# Altium integrated library National Semiconductor MiscPower.IntLib: 1552 symbols (part 11 of 43)
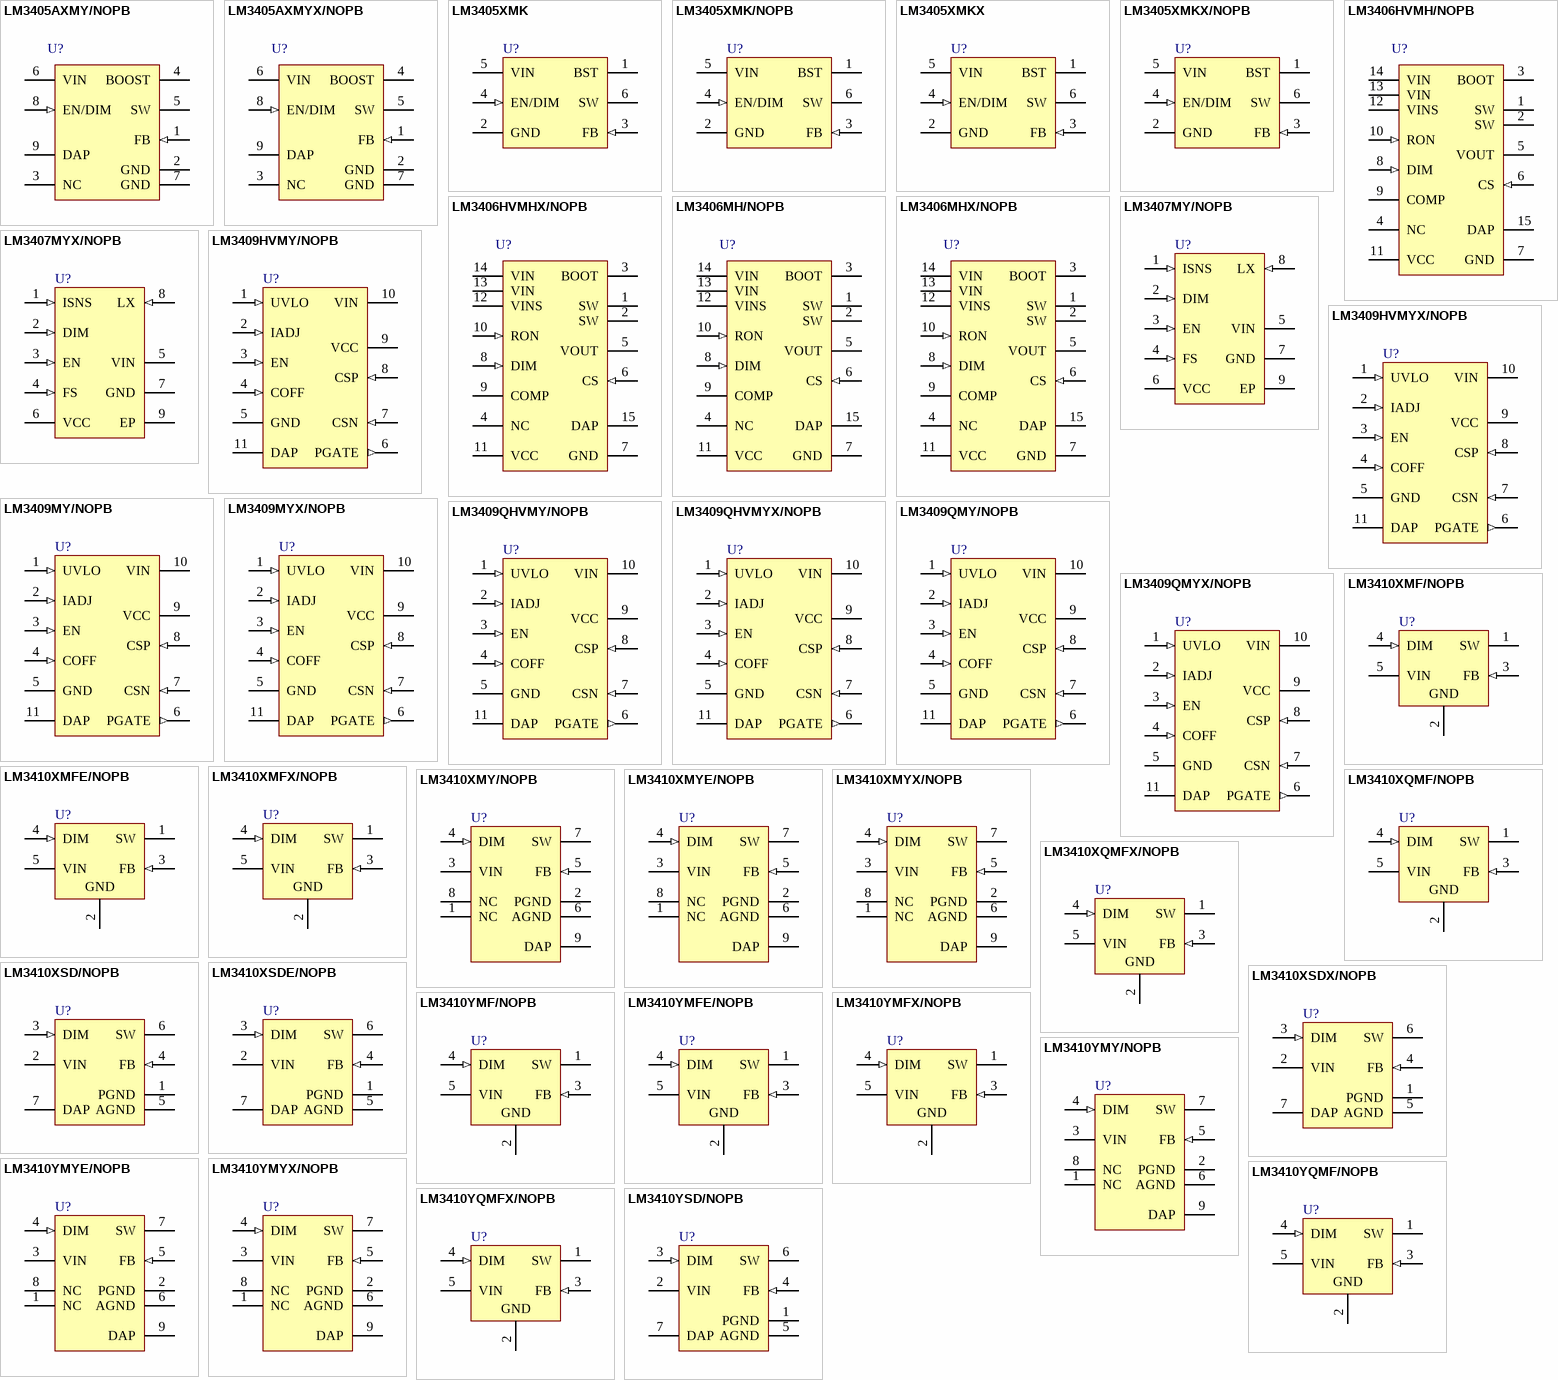
[diagram p67: symbols LM3405AXMY/NOPB to LM3410YSD/NOPB]

## LM3409QHVMY/NOPB
designator U?
PFET Buck Controller for High Power LED Drives, 10-pin eMSOP, Pb-Free; PartNumber: LM3409QHVMY/NOPB; Manufacturer: National Semiconductor; PackageTopMarking: ZXTT*SZEB; PowerWise: N; CompType: MiscPower; High-Reliability: Y; DatasheetVersion: Apr-2010; PackageVersion: revA, May-2006; PackageReference: MUC10A; PackageDescription: Molded Mini-SO, Exposed Pad .118 x .118 x .034in Body, 10 Lead, .0197in Pitch; RoHS: Y; PinCount: 10; Code_JEDEC: MO-187-BAT; ComponentLink1Description: Manufacturer URL; ComponentLink1URL: http://www.national.com/; ComponentLink2Description: LM3409 Datasheet; ComponentLink2URL: http://www.national.com/ds/LM/LM3409.pdf; ComponentLink3Description: LM3409 Web Page; ComponentLink3URL: http://www.national.com/pf/LM/LM3409.html; ComponentLink4Description: MUC10A Package Page; ComponentLink4URL: http://www.national.com/packaging/folders/muc10a.html
footprint MUC10A_N (TSSOP, 10-Leads, Body 3x3mm, Pitch 0.5mm, Exposed Pad, IPC Medium Density)
footprint MUC10A_L (TSSOP, 10-Leads, Body 3x3mm, Pitch 0.5mm, Exposed Pad, IPC High Density)
footprint MUC10A_M (TSSOP, 10-Leads, Body 3x3mm, Pitch 0.5mm, Exposed Pad, IPC Low Density)
pins: 1 UVLO (in) "Input under-voltage lockout", 2 IADJ (in) "Analog LED current adjust", 3 EN (in) "Logic level enable / PWM dimming", 4 COFF (in) "Off-time programming", 5 GND (power) "Ground", 6 PGATE (out) "Gate drive", 7 CSN (in) "Negative current sense", 8 CSP (in) "Positive current sense", 9 VCC (power) "VIN- referenced linear regulator output", 10 VIN (power) "Input voltage", 11 DAP (power) "Thermal pad on bottom of IC"

## LM3409QHVMYX/NOPB
designator U?
PFET Buck Controller for High Power LED Drives, 10-pin eMSOP, Pb-Free; PartNumber: LM3409QHVMYX/NOPB; Manufacturer: National Semiconductor; PackageTopMarking: ZXTT*SZEB; PowerWise: N; CompType: MiscPower; High-Reliability: Y; DatasheetVersion: Apr-2010; PackageVersion: revA, May-2006; PackageReference: MUC10A; PackageDescription: Molded Mini-SO, Exposed Pad .118 x .118 x .034in Body, 10 Lead, .0197in Pitch; RoHS: Y; PinCount: 10; Code_JEDEC: MO-187-BAT; ComponentLink1Description: Manufacturer URL; ComponentLink1URL: http://www.national.com/; ComponentLink2Description: LM3409 Datasheet; ComponentLink2URL: http://www.national.com/ds/LM/LM3409.pdf; ComponentLink3Description: LM3409 Web Page; ComponentLink3URL: http://www.national.com/pf/LM/LM3409.html; ComponentLink4Description: MUC10A Package Page; ComponentLink4URL: http://www.national.com/packaging/folders/muc10a.html
footprint MUC10A_N (TSSOP, 10-Leads, Body 3x3mm, Pitch 0.5mm, Exposed Pad, IPC Medium Density)
footprint MUC10A_L (TSSOP, 10-Leads, Body 3x3mm, Pitch 0.5mm, Exposed Pad, IPC High Density)
footprint MUC10A_M (TSSOP, 10-Leads, Body 3x3mm, Pitch 0.5mm, Exposed Pad, IPC Low Density)
pins: 1 UVLO (in) "Input under-voltage lockout", 2 IADJ (in) "Analog LED current adjust", 3 EN (in) "Logic level enable / PWM dimming", 4 COFF (in) "Off-time programming", 5 GND (power) "Ground", 6 PGATE (out) "Gate drive", 7 CSN (in) "Negative current sense", 8 CSP (in) "Positive current sense", 9 VCC (power) "VIN- referenced linear regulator output", 10 VIN (power) "Input voltage", 11 DAP (power) "Thermal pad on bottom of IC"

## LM3409QMY/NOPB
designator U?
PFET Buck Controller for High Power LED Drives, 10-pin eMSOP, Pb-Free; PartNumber: LM3409QMY/NOPB; Manufacturer: National Semiconductor; PackageTopMarking: ZXTT*SZDB; PowerWise: N; CompType: MiscPower; High-Reliability: Y; DatasheetVersion: Apr-2010; PackageVersion: revA, May-2006; PackageReference: MUC10A; PackageDescription: Molded Mini-SO, Exposed Pad .118 x .118 x .034in Body, 10 Lead, .0197in Pitch; RoHS: Y; PinCount: 10; Code_JEDEC: MO-187-BAT; ComponentLink1Description: Manufacturer URL; ComponentLink1URL: http://www.national.com/; ComponentLink2Description: LM3409 Datasheet; ComponentLink2URL: http://www.national.com/ds/LM/LM3409.pdf; ComponentLink3Description: LM3409 Web Page; ComponentLink3URL: http://www.national.com/pf/LM/LM3409.html; ComponentLink4Description: MUC10A Package Page; ComponentLink4URL: http://www.national.com/packaging/folders/muc10a.html
footprint MUC10A_N (TSSOP, 10-Leads, Body 3x3mm, Pitch 0.5mm, Exposed Pad, IPC Medium Density)
footprint MUC10A_L (TSSOP, 10-Leads, Body 3x3mm, Pitch 0.5mm, Exposed Pad, IPC High Density)
footprint MUC10A_M (TSSOP, 10-Leads, Body 3x3mm, Pitch 0.5mm, Exposed Pad, IPC Low Density)
pins: 1 UVLO (in) "Input under-voltage lockout", 2 IADJ (in) "Analog LED current adjust", 3 EN (in) "Logic level enable / PWM dimming", 4 COFF (in) "Off-time programming", 5 GND (power) "Ground", 6 PGATE (out) "Gate drive", 7 CSN (in) "Negative current sense", 8 CSP (in) "Positive current sense", 9 VCC (power) "VIN- referenced linear regulator output", 10 VIN (power) "Input voltage", 11 DAP (power) "Thermal pad on bottom of IC"

## LM3409QMYX/NOPB
designator U?
PFET Buck Controller for High Power LED Drives, 10-pin eMSOP, Pb-Free; PartNumber: LM3409QMYX/NOPB; Manufacturer: National Semiconductor; PackageTopMarking: ZXTT*SZDB; PowerWise: N; CompType: MiscPower; High-Reliability: Y; DatasheetVersion: Apr-2010; PackageVersion: revA, May-2006; PackageReference: MUC10A; PackageDescription: Molded Mini-SO, Exposed Pad .118 x .118 x .034in Body, 10 Lead, .0197in Pitch; RoHS: Y; PinCount: 10; Code_JEDEC: MO-187-BAT; ComponentLink1Description: Manufacturer URL; ComponentLink1URL: http://www.national.com/; ComponentLink2Description: LM3409 Datasheet; ComponentLink2URL: http://www.national.com/ds/LM/LM3409.pdf; ComponentLink3Description: LM3409 Web Page; ComponentLink3URL: http://www.national.com/pf/LM/LM3409.html; ComponentLink4Description: MUC10A Package Page; ComponentLink4URL: http://www.national.com/packaging/folders/muc10a.html
footprint MUC10A_N (TSSOP, 10-Leads, Body 3x3mm, Pitch 0.5mm, Exposed Pad, IPC Medium Density)
footprint MUC10A_L (TSSOP, 10-Leads, Body 3x3mm, Pitch 0.5mm, Exposed Pad, IPC High Density)
footprint MUC10A_M (TSSOP, 10-Leads, Body 3x3mm, Pitch 0.5mm, Exposed Pad, IPC Low Density)
pins: 1 UVLO (in) "Input under-voltage lockout", 2 IADJ (in) "Analog LED current adjust", 3 EN (in) "Logic level enable / PWM dimming", 4 COFF (in) "Off-time programming", 5 GND (power) "Ground", 6 PGATE (out) "Gate drive", 7 CSN (in) "Negative current sense", 8 CSP (in) "Positive current sense", 9 VCC (power) "VIN- referenced linear regulator output", 10 VIN (power) "Input voltage", 11 DAP (power) "Thermal pad on bottom of IC"

## LM3410XMF/NOPB
designator U?
525kHz/1.6MHz, Constant Current Boost and SEPIC LED Driver with Internal Compensation, 5-pin SOT-23, Pb-Free; PartNumber: LM3410XMF/NOPB; Manufacturer: National Semiconductor; PackageTopMarking: SSVB*XTT; PowerWise: Y; CompType: MiscPower; DatasheetVersion: May-2009; PackageVersion: revD, Aug-2008; PackageReference: MF05A; PackageDescription: Molded SOT-23, .115 x .063 x .040 in Body, 5 Lead, .0375 in Pitch; RoHS: Y; PinCount: 5; High-Reliability: Y; ComponentLink1Description: Manufacturer URL; ComponentLink1URL: http://www.national.com/; ComponentLink2Description: LM3410 Datasheet; ComponentLink2URL: http://www.national.com/ds/LM/LM3410.pdf; ComponentLink3Description: LM3410 Web Page; ComponentLink3URL: http://www.national.com/pf/LM/LM3410.html; ComponentLink4Description: MF05A Package Page; ComponentLink4URL: http://www.national.com/packaging/folders/mf05a.html
footprint MF05A_N (SOT23, 5-Leads, Body 2.9x1.6mm, Pitch 0.95mm, Lead Span 2.8mm, IPC Medium Density)
footprint MF05A_L (SOT23, 5-Leads, Body 2.9x1.6mm, Pitch 0.95mm, Lead Span 2.8mm, IPC High Density)
footprint MF05A_M (SOT23, 5-Leads, Body 2.9x1.6mm, Pitch 0.95mm, Lead Span 2.8mm, IPC Low Density)
pins: 1 SW (power), 2 GND (power), 3 FB (in), 4 DIM (in), 5 VIN (power)

## LM3410XMFE/NOPB
designator U?
525kHz/1.6MHz, Constant Current Boost and SEPIC LED Driver with Internal Compensation, 5-pin SOT-23, Pb-Free; PartNumber: LM3410XMFE/NOPB; Manufacturer: National Semiconductor; PackageTopMarking: SSVB*XTT; PowerWise: N; CompType: MiscPower; High-Reliability: Y; DatasheetVersion: May-2009; PackageVersion: revD, Aug-2008; PackageReference: MF05A; PackageDescription: Molded SOT-23, .115 x .063 x .040 in Body, 5 Lead, .0375 in Pitch; RoHS: Y; PinCount: 5; ComponentLink1Description: Manufacturer URL; ComponentLink1URL: http://www.national.com/; ComponentLink2Description: LM3410 Datasheet; ComponentLink2URL: http://www.national.com/ds/LM/LM3410.pdf; ComponentLink3Description: LM3410 Web Page; ComponentLink3URL: http://www.national.com/pf/LM/LM3410.html; ComponentLink4Description: MF05A Package Page; ComponentLink4URL: http://www.national.com/packaging/folders/mf05a.html
footprint MF05A_N (SOT23, 5-Leads, Body 2.9x1.6mm, Pitch 0.95mm, Lead Span 2.8mm, IPC Medium Density)
footprint MF05A_L (SOT23, 5-Leads, Body 2.9x1.6mm, Pitch 0.95mm, Lead Span 2.8mm, IPC High Density)
footprint MF05A_M (SOT23, 5-Leads, Body 2.9x1.6mm, Pitch 0.95mm, Lead Span 2.8mm, IPC Low Density)
pins: 1 SW (power), 2 GND (power), 3 FB (in), 4 DIM (in), 5 VIN (power)

## LM3410XMFX/NOPB
designator U?
525kHz/1.6MHz, Constant Current Boost and SEPIC LED Driver with Internal Compensation, 5-pin SOT-23, Pb-Free; PartNumber: LM3410XMFX/NOPB; Manufacturer: National Semiconductor; PackageTopMarking: SSVB*XTT; PowerWise: Y; CompType: MiscPower; DatasheetVersion: May-2009; PackageVersion: revD, Aug-2008; PackageReference: MF05A; PackageDescription: Molded SOT-23, .115 x .063 x .040 in Body, 5 Lead, .0375 in Pitch; RoHS: Y; PinCount: 5; High-Reliability: Y; ComponentLink1Description: Manufacturer URL; ComponentLink1URL: http://www.national.com/; ComponentLink2Description: LM3410 Datasheet; ComponentLink2URL: http://www.national.com/ds/LM/LM3410.pdf; ComponentLink3Description: LM3410 Web Page; ComponentLink3URL: http://www.national.com/pf/LM/LM3410.html; ComponentLink4Description: MF05A Package Page; ComponentLink4URL: http://www.national.com/packaging/folders/mf05a.html
footprint MF05A_N (SOT23, 5-Leads, Body 2.9x1.6mm, Pitch 0.95mm, Lead Span 2.8mm, IPC Medium Density)
footprint MF05A_L (SOT23, 5-Leads, Body 2.9x1.6mm, Pitch 0.95mm, Lead Span 2.8mm, IPC High Density)
footprint MF05A_M (SOT23, 5-Leads, Body 2.9x1.6mm, Pitch 0.95mm, Lead Span 2.8mm, IPC Low Density)
pins: 1 SW (power), 2 GND (power), 3 FB (in), 4 DIM (in), 5 VIN (power)

## LM3410XMY/NOPB
designator U?
525kHz/1.6MHz, Constant Current Boost and SEPIC LED Driver with Internal Compensation, 8-pin eMSOP, Pb-Free; PartNumber: LM3410XMY/NOPB; Manufacturer: National Semiconductor; PackageTopMarking: ZXTT*SSXB; PowerWise: Y; CompType: MiscPower; DatasheetVersion: May-2009; PackageVersion: revA, Nov-2003; PackageReference: MUY08A; PackageDescription: Molded Mini-SO, Exposed Pad, .118 x .118 x .034in Body, 8 Lead, .0256in Pitch; RoHS: Y; PinCount: 8; High-Reliability: Y; Code_JEDEC: MO-187-AA; ComponentLink1Description: Manufacturer URL; ComponentLink1URL: http://www.national.com/; ComponentLink2Description: LM3410 Datasheet; ComponentLink2URL: http://www.national.com/ds/LM/LM3410.pdf; ComponentLink3Description: LM3410 Web Page; ComponentLink3URL: http://www.national.com/pf/LM/LM3410.html; ComponentLink4Description: MUY08A Package Page; ComponentLink4URL: http://www.national.com/packaging/folders/muy08a.html
footprint MUY08A_N (TSOP, 8-Leads, Body 3x3mm, Pitch 0.65mm, Thermal Pad, IPC Medium Density)
footprint MUY08A_L (TSOP, 8-Leads, Body 3x3mm, Pitch 0.65mm, Thermal Pad, IPC High Density)
footprint MUY08A_M (TSOP, 8-Leads, Body 3x3mm, Pitch 0.65mm, Thermal Pad, IPC Low Density)
pins: 1 NC, 2 PGND (power), 3 VIN (power), 4 DIM (in), 5 FB (in), 6 AGND (power), 7 SW (power), 8 NC, 9 DAP (power)

## LM3410XMYE/NOPB
designator U?
525kHz/1.6MHz, Constant Current Boost and SEPIC LED Driver with Internal Compensation, 8-pin eMSOP, Pb-Free; PartNumber: LM3410XMYE/NOPB; Manufacturer: National Semiconductor; PackageTopMarking: ZXTT*SSXB; PowerWise: N; CompType: MiscPower; High-Reliability: Y; DatasheetVersion: May-2009; PackageVersion: revA, Nov-2003; PackageReference: MUY08A; PackageDescription: Molded Mini-SO, Exposed Pad, .118 x .118 x .034in Body, 8 Lead, .0256in Pitch; RoHS: Y; PinCount: 8; Code_JEDEC: MO-187-AA; ComponentLink1Description: Manufacturer URL; ComponentLink1URL: http://www.national.com/; ComponentLink2Description: LM3410 Datasheet; ComponentLink2URL: http://www.national.com/ds/LM/LM3410.pdf; ComponentLink3Description: LM3410 Web Page; ComponentLink3URL: http://www.national.com/pf/LM/LM3410.html; ComponentLink4Description: MUY08A Package Page; ComponentLink4URL: http://www.national.com/packaging/folders/muy08a.html
footprint MUY08A_N (TSOP, 8-Leads, Body 3x3mm, Pitch 0.65mm, Thermal Pad, IPC Medium Density)
footprint MUY08A_L (TSOP, 8-Leads, Body 3x3mm, Pitch 0.65mm, Thermal Pad, IPC High Density)
footprint MUY08A_M (TSOP, 8-Leads, Body 3x3mm, Pitch 0.65mm, Thermal Pad, IPC Low Density)
pins: 1 NC, 2 PGND (power), 3 VIN (power), 4 DIM (in), 5 FB (in), 6 AGND (power), 7 SW (power), 8 NC, 9 DAP (power)

## LM3410XMYX/NOPB
designator U?
525kHz/1.6MHz, Constant Current Boost and SEPIC LED Driver with Internal Compensation, 8-pin eMSOP, Pb-Free; PartNumber: LM3410XMYX/NOPB; Manufacturer: National Semiconductor; PackageTopMarking: ZXTT*SSXB; PowerWise: Y; CompType: MiscPower; DatasheetVersion: May-2009; PackageVersion: revA, Nov-2003; PackageReference: MUY08A; PackageDescription: Molded Mini-SO, Exposed Pad, .118 x .118 x .034in Body, 8 Lead, .0256in Pitch; RoHS: Y; PinCount: 8; High-Reliability: Y; Code_JEDEC: MO-187-AA; ComponentLink1Description: Manufacturer URL; ComponentLink1URL: http://www.national.com/; ComponentLink2Description: LM3410 Datasheet; ComponentLink2URL: http://www.national.com/ds/LM/LM3410.pdf; ComponentLink3Description: LM3410 Web Page; ComponentLink3URL: http://www.national.com/pf/LM/LM3410.html; ComponentLink4Description: MUY08A Package Page; ComponentLink4URL: http://www.national.com/packaging/folders/muy08a.html
footprint MUY08A_N (TSOP, 8-Leads, Body 3x3mm, Pitch 0.65mm, Thermal Pad, IPC Medium Density)
footprint MUY08A_L (TSOP, 8-Leads, Body 3x3mm, Pitch 0.65mm, Thermal Pad, IPC High Density)
footprint MUY08A_M (TSOP, 8-Leads, Body 3x3mm, Pitch 0.65mm, Thermal Pad, IPC Low Density)
pins: 1 NC, 2 PGND (power), 3 VIN (power), 4 DIM (in), 5 FB (in), 6 AGND (power), 7 SW (power), 8 NC, 9 DAP (power)

## LM3410XQMF/NOPB
designator U?
525kHz/1.6MHz, Constant Current Boost and SEPIC LED Driver with Internal Compensation, 5-pin SOT-23, Pb-Free; PartNumber: LM3410XQMF/NOPB; Manufacturer: National Semiconductor; PackageTopMarking: SXUB*XTT; PowerWise: N; CompType: MiscPower; High-Reliability: Y; DatasheetVersion: May-2009; PackageVersion: revD, Aug-2008; PackageReference: MF05A; PackageDescription: Molded SOT-23, .115 x .063 x .040 in Body, 5 Lead, .0375 in Pitch; RoHS: Y; PinCount: 5; ComponentLink1Description: Manufacturer URL; ComponentLink1URL: http://www.national.com/; ComponentLink2Description: LM3410 Datasheet; ComponentLink2URL: http://www.national.com/ds/LM/LM3410.pdf; ComponentLink3Description: LM3410 Web Page; ComponentLink3URL: http://www.national.com/pf/LM/LM3410.html; ComponentLink4Description: MF05A Package Page; ComponentLink4URL: http://www.national.com/packaging/folders/mf05a.html
footprint MF05A_N (SOT23, 5-Leads, Body 2.9x1.6mm, Pitch 0.95mm, Lead Span 2.8mm, IPC Medium Density)
footprint MF05A_L (SOT23, 5-Leads, Body 2.9x1.6mm, Pitch 0.95mm, Lead Span 2.8mm, IPC High Density)
footprint MF05A_M (SOT23, 5-Leads, Body 2.9x1.6mm, Pitch 0.95mm, Lead Span 2.8mm, IPC Low Density)
pins: 1 SW (power), 2 GND (power), 3 FB (in), 4 DIM (in), 5 VIN (power)

## LM3410XQMFX/NOPB
designator U?
525kHz/1.6MHz, Constant Current Boost and SEPIC LED Driver with Internal Compensation, 5-pin SOT-23, Pb-Free; PartNumber: LM3410XQMFX/NOPB; Manufacturer: National Semiconductor; PackageTopMarking: SXUB*XTT; PowerWise: N; CompType: MiscPower; High-Reliability: Y; DatasheetVersion: May-2009; PackageVersion: revD, Aug-2008; PackageReference: MF05A; PackageDescription: Molded SOT-23, .115 x .063 x .040 in Body, 5 Lead, .0375 in Pitch; RoHS: Y; PinCount: 5; ComponentLink1Description: Manufacturer URL; ComponentLink1URL: http://www.national.com/; ComponentLink2Description: LM3410 Datasheet; ComponentLink2URL: http://www.national.com/ds/LM/LM3410.pdf; ComponentLink3Description: LM3410 Web Page; ComponentLink3URL: http://www.national.com/pf/LM/LM3410.html; ComponentLink4Description: MF05A Package Page; ComponentLink4URL: http://www.national.com/packaging/folders/mf05a.html
footprint MF05A_N (SOT23, 5-Leads, Body 2.9x1.6mm, Pitch 0.95mm, Lead Span 2.8mm, IPC Medium Density)
footprint MF05A_L (SOT23, 5-Leads, Body 2.9x1.6mm, Pitch 0.95mm, Lead Span 2.8mm, IPC High Density)
footprint MF05A_M (SOT23, 5-Leads, Body 2.9x1.6mm, Pitch 0.95mm, Lead Span 2.8mm, IPC Low Density)
pins: 1 SW (power), 2 GND (power), 3 FB (in), 4 DIM (in), 5 VIN (power)

## LM3410XSD/NOPB
designator U?
525kHz/1.6MHz, Constant Current Boost and SEPIC LED Driver with Internal Compensation, 6-pin LLP, Pb-Free; PartNumber: LM3410XSD/NOPB; Manufacturer: National Semiconductor; PackageTopMarking: ZXYTT*3410X; PowerWise: Y; CompType: MiscPower; DatasheetVersion: May-2009; PackageVersion: revA, Jul-2003; PackageReference: SDE06A; PackageDescription: LLP, Plastic, Dual, 3 x 3 x 0.8mm Body, 6 Lead, 0.95mm Pitch, No Pullback; RoHS: Y; PinCount: 6; High-Reliability: Y; ComponentLink1Description: Manufacturer URL; ComponentLink1URL: http://www.national.com/; ComponentLink2Description: LM3410 Datasheet; ComponentLink2URL: http://www.national.com/ds/LM/LM3410.pdf; ComponentLink3Description: LM3410 Web Page; ComponentLink3URL: http://www.national.com/pf/LM/LM3410.html; ComponentLink4Description: SDE06A Package Page; ComponentLink4URL: http://www.national.com/packaging/folders/sde06a.html
footprint SDE06A_full (SON, 6-Leads, Body 3x3 mm, Pitch 0.95mm, Full Paste, NSC Recommended)
footprint SDE06A_quad (SON, 6-Leads, Body 3x3 mm, Pitch 0.95mm, Quad Paste, NSC Recommended)
pins: 1 PGND (power), 2 VIN (power), 3 DIM (in), 4 FB (in), 5 AGND (power), 6 SW (power), 7 DAP (power)

## LM3410XSDE/NOPB
designator U?
525kHz/1.6MHz, Constant Current Boost and SEPIC LED Driver with Internal Compensation, 6-pin LLP, Pb-Free; PartNumber: LM3410XSDE/NOPB; Manufacturer: National Semiconductor; PackageTopMarking: ZXYTT*3410X; PowerWise: N; CompType: MiscPower; High-Reliability: Y; DatasheetVersion: May-2009; PackageVersion: revA, Jul-2003; PackageReference: SDE06A; PackageDescription: LLP, Plastic, Dual, 3 x 3 x 0.8mm Body, 6 Lead, 0.95mm Pitch, No Pullback; RoHS: Y; PinCount: 6; ComponentLink1Description: Manufacturer URL; ComponentLink1URL: http://www.national.com/; ComponentLink2Description: LM3410 Datasheet; ComponentLink2URL: http://www.national.com/ds/LM/LM3410.pdf; ComponentLink3Description: LM3410 Web Page; ComponentLink3URL: http://www.national.com/pf/LM/LM3410.html; ComponentLink4Description: SDE06A Package Page; ComponentLink4URL: http://www.national.com/packaging/folders/sde06a.html
footprint SDE06A_full (SON, 6-Leads, Body 3x3 mm, Pitch 0.95mm, Full Paste, NSC Recommended)
footprint SDE06A_quad (SON, 6-Leads, Body 3x3 mm, Pitch 0.95mm, Quad Paste, NSC Recommended)
pins: 1 PGND (power), 2 VIN (power), 3 DIM (in), 4 FB (in), 5 AGND (power), 6 SW (power), 7 DAP (power)

## LM3410XSDX/NOPB
designator U?
525kHz/1.6MHz, Constant Current Boost and SEPIC LED Driver with Internal Compensation, 6-pin LLP, Pb-Free; PartNumber: LM3410XSDX/NOPB; Manufacturer: National Semiconductor; PackageTopMarking: ZXYTT*3410X; PowerWise: Y; CompType: MiscPower; DatasheetVersion: May-2009; PackageVersion: revA, Jul-2003; PackageReference: SDE06A; PackageDescription: LLP, Plastic, Dual, 3 x 3 x 0.8mm Body, 6 Lead, 0.95mm Pitch, No Pullback; RoHS: Y; PinCount: 6; High-Reliability: Y; ComponentLink1Description: Manufacturer URL; ComponentLink1URL: http://www.national.com/; ComponentLink2Description: LM3410 Datasheet; ComponentLink2URL: http://www.national.com/ds/LM/LM3410.pdf; ComponentLink3Description: LM3410 Web Page; ComponentLink3URL: http://www.national.com/pf/LM/LM3410.html; ComponentLink4Description: SDE06A Package Page; ComponentLink4URL: http://www.national.com/packaging/folders/sde06a.html
footprint SDE06A_full (SON, 6-Leads, Body 3x3 mm, Pitch 0.95mm, Full Paste, NSC Recommended)
footprint SDE06A_quad (SON, 6-Leads, Body 3x3 mm, Pitch 0.95mm, Quad Paste, NSC Recommended)
pins: 1 PGND (power), 2 VIN (power), 3 DIM (in), 4 FB (in), 5 AGND (power), 6 SW (power), 7 DAP (power)

## LM3410YMF/NOPB
designator U?
525kHz/1.6MHz, Constant Current Boost and SEPIC LED Driver with Internal Compensation, 5-pin SOT-23, Pb-Free; PartNumber: LM3410YMF/NOPB; Manufacturer: National Semiconductor; PackageTopMarking: SSZB*XTT; PowerWise: Y; CompType: MiscPower; DatasheetVersion: May-2009; PackageVersion: revD, Aug-2008; PackageReference: MF05A; PackageDescription: Molded SOT-23, .115 x .063 x .040 in Body, 5 Lead, .0375 in Pitch; RoHS: Y; PinCount: 5; High-Reliability: Y; ComponentLink1Description: Manufacturer URL; ComponentLink1URL: http://www.national.com/; ComponentLink2Description: LM3410 Datasheet; ComponentLink2URL: http://www.national.com/ds/LM/LM3410.pdf; ComponentLink3Description: LM3410 Web Page; ComponentLink3URL: http://www.national.com/pf/LM/LM3410.html; ComponentLink4Description: MF05A Package Page; ComponentLink4URL: http://www.national.com/packaging/folders/mf05a.html
footprint MF05A_N (SOT23, 5-Leads, Body 2.9x1.6mm, Pitch 0.95mm, Lead Span 2.8mm, IPC Medium Density)
footprint MF05A_L (SOT23, 5-Leads, Body 2.9x1.6mm, Pitch 0.95mm, Lead Span 2.8mm, IPC High Density)
footprint MF05A_M (SOT23, 5-Leads, Body 2.9x1.6mm, Pitch 0.95mm, Lead Span 2.8mm, IPC Low Density)
pins: 1 SW (power), 2 GND (power), 3 FB (in), 4 DIM (in), 5 VIN (power)

## LM3410YMFE/NOPB
designator U?
525kHz/1.6MHz, Constant Current Boost and SEPIC LED Driver with Internal Compensation, 5-pin SOT-23, Pb-Free; PartNumber: LM3410YMFE/NOPB; Manufacturer: National Semiconductor; PackageTopMarking: SSZB*XTT; PowerWise: N; CompType: MiscPower; High-Reliability: Y; DatasheetVersion: May-2009; PackageVersion: revD, Aug-2008; PackageReference: MF05A; PackageDescription: Molded SOT-23, .115 x .063 x .040 in Body, 5 Lead, .0375 in Pitch; RoHS: Y; PinCount: 5; ComponentLink1Description: Manufacturer URL; ComponentLink1URL: http://www.national.com/; ComponentLink2Description: LM3410 Datasheet; ComponentLink2URL: http://www.national.com/ds/LM/LM3410.pdf; ComponentLink3Description: LM3410 Web Page; ComponentLink3URL: http://www.national.com/pf/LM/LM3410.html; ComponentLink4Description: MF05A Package Page; ComponentLink4URL: http://www.national.com/packaging/folders/mf05a.html
footprint MF05A_N (SOT23, 5-Leads, Body 2.9x1.6mm, Pitch 0.95mm, Lead Span 2.8mm, IPC Medium Density)
footprint MF05A_L (SOT23, 5-Leads, Body 2.9x1.6mm, Pitch 0.95mm, Lead Span 2.8mm, IPC High Density)
footprint MF05A_M (SOT23, 5-Leads, Body 2.9x1.6mm, Pitch 0.95mm, Lead Span 2.8mm, IPC Low Density)
pins: 1 SW (power), 2 GND (power), 3 FB (in), 4 DIM (in), 5 VIN (power)

## LM3410YMFX/NOPB
designator U?
525kHz/1.6MHz, Constant Current Boost and SEPIC LED Driver with Internal Compensation, 5-pin SOT-23, Pb-Free; PartNumber: LM3410YMFX/NOPB; Manufacturer: National Semiconductor; PackageTopMarking: SSZB*XTT; PowerWise: Y; CompType: MiscPower; DatasheetVersion: May-2009; PackageVersion: revD, Aug-2008; PackageReference: MF05A; PackageDescription: Molded SOT-23, .115 x .063 x .040 in Body, 5 Lead, .0375 in Pitch; RoHS: Y; PinCount: 5; High-Reliability: Y; ComponentLink1Description: Manufacturer URL; ComponentLink1URL: http://www.national.com/; ComponentLink2Description: LM3410 Datasheet; ComponentLink2URL: http://www.national.com/ds/LM/LM3410.pdf; ComponentLink3Description: LM3410 Web Page; ComponentLink3URL: http://www.national.com/pf/LM/LM3410.html; ComponentLink4Description: MF05A Package Page; ComponentLink4URL: http://www.national.com/packaging/folders/mf05a.html
footprint MF05A_N (SOT23, 5-Leads, Body 2.9x1.6mm, Pitch 0.95mm, Lead Span 2.8mm, IPC Medium Density)
footprint MF05A_L (SOT23, 5-Leads, Body 2.9x1.6mm, Pitch 0.95mm, Lead Span 2.8mm, IPC High Density)
footprint MF05A_M (SOT23, 5-Leads, Body 2.9x1.6mm, Pitch 0.95mm, Lead Span 2.8mm, IPC Low Density)
pins: 1 SW (power), 2 GND (power), 3 FB (in), 4 DIM (in), 5 VIN (power)

## LM3410YMY/NOPB
designator U?
525kHz/1.6MHz, Constant Current Boost and SEPIC LED Driver with Internal Compensation, 8-pin eMSOP, Pb-Free; PartNumber: LM3410YMY/NOPB; Manufacturer: National Semiconductor; PackageTopMarking: ZXTT*STAB; PowerWise: Y; CompType: MiscPower; DatasheetVersion: May-2009; PackageVersion: revA, Nov-2003; PackageReference: MUY08A; PackageDescription: Molded Mini-SO, Exposed Pad, .118 x .118 x .034in Body, 8 Lead, .0256in Pitch; RoHS: Y; PinCount: 8; High-Reliability: Y; Code_JEDEC: MO-187-AA; ComponentLink1Description: Manufacturer URL; ComponentLink1URL: http://www.national.com/; ComponentLink2Description: LM3410 Datasheet; ComponentLink2URL: http://www.national.com/ds/LM/LM3410.pdf; ComponentLink3Description: LM3410 Web Page; ComponentLink3URL: http://www.national.com/pf/LM/LM3410.html; ComponentLink4Description: MUY08A Package Page; ComponentLink4URL: http://www.national.com/packaging/folders/muy08a.html
footprint MUY08A_N (TSOP, 8-Leads, Body 3x3mm, Pitch 0.65mm, Thermal Pad, IPC Medium Density)
footprint MUY08A_L (TSOP, 8-Leads, Body 3x3mm, Pitch 0.65mm, Thermal Pad, IPC High Density)
footprint MUY08A_M (TSOP, 8-Leads, Body 3x3mm, Pitch 0.65mm, Thermal Pad, IPC Low Density)
pins: 1 NC, 2 PGND (power), 3 VIN (power), 4 DIM (in), 5 FB (in), 6 AGND (power), 7 SW (power), 8 NC, 9 DAP (power)

## LM3410YMYE/NOPB
designator U?
525kHz/1.6MHz, Constant Current Boost and SEPIC LED Driver with Internal Compensation, 8-pin eMSOP, Pb-Free; PartNumber: LM3410YMYE/NOPB; Manufacturer: National Semiconductor; PackageTopMarking: ZXTT*STAB; PowerWise: N; CompType: MiscPower; High-Reliability: Y; DatasheetVersion: May-2009; PackageVersion: revA, Nov-2003; PackageReference: MUY08A; PackageDescription: Molded Mini-SO, Exposed Pad, .118 x .118 x .034in Body, 8 Lead, .0256in Pitch; RoHS: Y; PinCount: 8; Code_JEDEC: MO-187-AA; ComponentLink1Description: Manufacturer URL; ComponentLink1URL: http://www.national.com/; ComponentLink2Description: LM3410 Datasheet; ComponentLink2URL: http://www.national.com/ds/LM/LM3410.pdf; ComponentLink3Description: LM3410 Web Page; ComponentLink3URL: http://www.national.com/pf/LM/LM3410.html; ComponentLink4Description: MUY08A Package Page; ComponentLink4URL: http://www.national.com/packaging/folders/muy08a.html
footprint MUY08A_N (TSOP, 8-Leads, Body 3x3mm, Pitch 0.65mm, Thermal Pad, IPC Medium Density)
footprint MUY08A_L (TSOP, 8-Leads, Body 3x3mm, Pitch 0.65mm, Thermal Pad, IPC High Density)
footprint MUY08A_M (TSOP, 8-Leads, Body 3x3mm, Pitch 0.65mm, Thermal Pad, IPC Low Density)
pins: 1 NC, 2 PGND (power), 3 VIN (power), 4 DIM (in), 5 FB (in), 6 AGND (power), 7 SW (power), 8 NC, 9 DAP (power)

## LM3410YMYX/NOPB
designator U?
525kHz/1.6MHz, Constant Current Boost and SEPIC LED Driver with Internal Compensation, 8-pin eMSOP, Pb-Free; PartNumber: LM3410YMYX/NOPB; Manufacturer: National Semiconductor; PackageTopMarking: ZXTT*STAB; PowerWise: Y; CompType: MiscPower; DatasheetVersion: May-2009; PackageVersion: revA, Nov-2003; PackageReference: MUY08A; PackageDescription: Molded Mini-SO, Exposed Pad, .118 x .118 x .034in Body, 8 Lead, .0256in Pitch; RoHS: Y; PinCount: 8; High-Reliability: Y; Code_JEDEC: MO-187-AA; ComponentLink1Description: Manufacturer URL; ComponentLink1URL: http://www.national.com/; ComponentLink2Description: LM3410 Datasheet; ComponentLink2URL: http://www.national.com/ds/LM/LM3410.pdf; ComponentLink3Description: LM3410 Web Page; ComponentLink3URL: http://www.national.com/pf/LM/LM3410.html; ComponentLink4Description: MUY08A Package Page; ComponentLink4URL: http://www.national.com/packaging/folders/muy08a.html
footprint MUY08A_N (TSOP, 8-Leads, Body 3x3mm, Pitch 0.65mm, Thermal Pad, IPC Medium Density)
footprint MUY08A_L (TSOP, 8-Leads, Body 3x3mm, Pitch 0.65mm, Thermal Pad, IPC High Density)
footprint MUY08A_M (TSOP, 8-Leads, Body 3x3mm, Pitch 0.65mm, Thermal Pad, IPC Low Density)
pins: 1 NC, 2 PGND (power), 3 VIN (power), 4 DIM (in), 5 FB (in), 6 AGND (power), 7 SW (power), 8 NC, 9 DAP (power)

## LM3410YQMF/NOPB
designator U?
525kHz/1.6MHz, Constant Current Boost and SEPIC LED Driver with Internal Compensation, 5-pin SOT-23, Pb-Free; PartNumber: LM3410YQMF/NOPB; Manufacturer: National Semiconductor; PackageTopMarking: SXXB*XTT; PowerWise: N; CompType: MiscPower; High-Reliability: Y; DatasheetVersion: May-2009; PackageVersion: revD, Aug-2008; PackageReference: MF05A; PackageDescription: Molded SOT-23, .115 x .063 x .040 in Body, 5 Lead, .0375 in Pitch; RoHS: Y; PinCount: 5; ComponentLink1Description: Manufacturer URL; ComponentLink1URL: http://www.national.com/; ComponentLink2Description: LM3410 Datasheet; ComponentLink2URL: http://www.national.com/ds/LM/LM3410.pdf; ComponentLink3Description: LM3410 Web Page; ComponentLink3URL: http://www.national.com/pf/LM/LM3410.html; ComponentLink4Description: MF05A Package Page; ComponentLink4URL: http://www.national.com/packaging/folders/mf05a.html
footprint MF05A_N (SOT23, 5-Leads, Body 2.9x1.6mm, Pitch 0.95mm, Lead Span 2.8mm, IPC Medium Density)
footprint MF05A_L (SOT23, 5-Leads, Body 2.9x1.6mm, Pitch 0.95mm, Lead Span 2.8mm, IPC High Density)
footprint MF05A_M (SOT23, 5-Leads, Body 2.9x1.6mm, Pitch 0.95mm, Lead Span 2.8mm, IPC Low Density)
pins: 1 SW (power), 2 GND (power), 3 FB (in), 4 DIM (in), 5 VIN (power)

## LM3410YQMFX/NOPB
designator U?
525kHz/1.6MHz, Constant Current Boost and SEPIC LED Driver with Internal Compensation, 5-pin SOT-23, Pb-Free; PartNumber: LM3410YQMFX/NOPB; Manufacturer: National Semiconductor; PackageTopMarking: SXXB*XTT; PowerWise: N; CompType: MiscPower; High-Reliability: Y; DatasheetVersion: May-2009; PackageVersion: revD, Aug-2008; PackageReference: MF05A; PackageDescription: Molded SOT-23, .115 x .063 x .040 in Body, 5 Lead, .0375 in Pitch; RoHS: Y; PinCount: 5; ComponentLink1Description: Manufacturer URL; ComponentLink1URL: http://www.national.com/; ComponentLink2Description: LM3410 Datasheet; ComponentLink2URL: http://www.national.com/ds/LM/LM3410.pdf; ComponentLink3Description: LM3410 Web Page; ComponentLink3URL: http://www.national.com/pf/LM/LM3410.html; ComponentLink4Description: MF05A Package Page; ComponentLink4URL: http://www.national.com/packaging/folders/mf05a.html
footprint MF05A_N (SOT23, 5-Leads, Body 2.9x1.6mm, Pitch 0.95mm, Lead Span 2.8mm, IPC Medium Density)
footprint MF05A_L (SOT23, 5-Leads, Body 2.9x1.6mm, Pitch 0.95mm, Lead Span 2.8mm, IPC High Density)
footprint MF05A_M (SOT23, 5-Leads, Body 2.9x1.6mm, Pitch 0.95mm, Lead Span 2.8mm, IPC Low Density)
pins: 1 SW (power), 2 GND (power), 3 FB (in), 4 DIM (in), 5 VIN (power)

## LM3410YSD/NOPB
designator U?
525kHz/1.6MHz, Constant Current Boost and SEPIC LED Driver with Internal Compensation, 6-pin LLP, Pb-Free; PartNumber: LM3410YSD/NOPB; Manufacturer: National Semiconductor; PackageTopMarking: ZXYTT*3410Y; PowerWise: Y; CompType: MiscPower; DatasheetVersion: May-2009; PackageVersion: revA, Jul-2003; PackageReference: SDE06A; PackageDescription: LLP, Plastic, Dual, 3 x 3 x 0.8mm Body, 6 Lead, 0.95mm Pitch, No Pullback; RoHS: Y; PinCount: 6; High-Reliability: Y; ComponentLink1Description: Manufacturer URL; ComponentLink1URL: http://www.national.com/; ComponentLink2Description: LM3410 Datasheet; ComponentLink2URL: http://www.national.com/ds/LM/LM3410.pdf; ComponentLink3Description: LM3410 Web Page; ComponentLink3URL: http://www.national.com/pf/LM/LM3410.html; ComponentLink4Description: SDE06A Package Page; ComponentLink4URL: http://www.national.com/packaging/folders/sde06a.html
footprint SDE06A_full (SON, 6-Leads, Body 3x3 mm, Pitch 0.95mm, Full Paste, NSC Recommended)
footprint SDE06A_quad (SON, 6-Leads, Body 3x3 mm, Pitch 0.95mm, Quad Paste, NSC Recommended)
pins: 1 PGND (power), 2 VIN (power), 3 DIM (in), 4 FB (in), 5 AGND (power), 6 SW (power), 7 DAP (power)

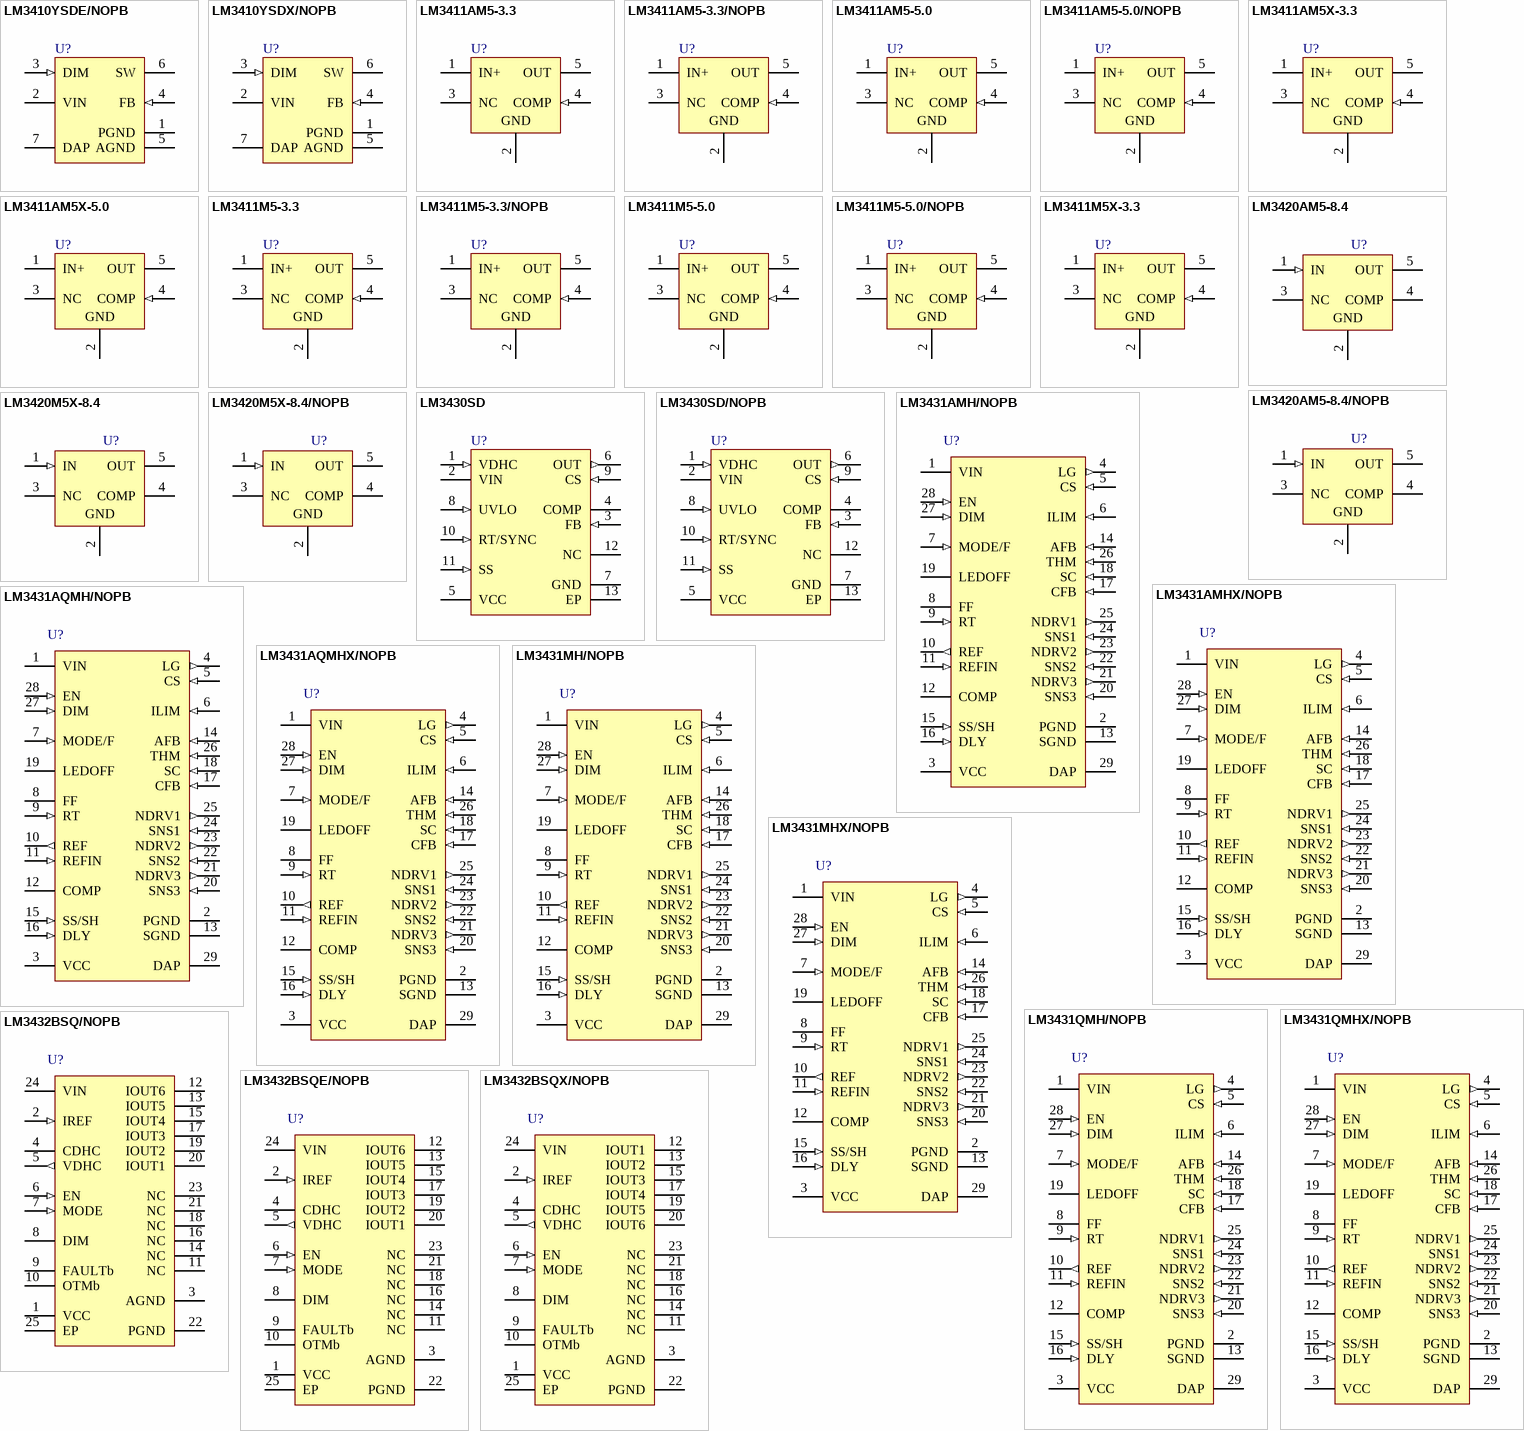
[diagram p12: symbols LM3410YSDE/NOPB to LM3432BSQX/NOPB]

## LM3410YSDE/NOPB
designator U?
525kHz/1.6MHz, Constant Current Boost and SEPIC LED Driver with Internal Compensation, 6-pin LLP, Pb-Free; PartNumber: LM3410YSDE/NOPB; Manufacturer: National Semiconductor; PackageTopMarking: ZXYTT*3410Y; PowerWise: N; CompType: MiscPower; High-Reliability: Y; DatasheetVersion: May-2009; PackageVersion: revA, Jul-2003; PackageReference: SDE06A; PackageDescription: LLP, Plastic, Dual, 3 x 3 x 0.8mm Body, 6 Lead, 0.95mm Pitch, No Pullback; RoHS: Y; PinCount: 6; ComponentLink1Description: Manufacturer URL; ComponentLink1URL: http://www.national.com/; ComponentLink2Description: LM3410 Datasheet; ComponentLink2URL: http://www.national.com/ds/LM/LM3410.pdf; ComponentLink3Description: LM3410 Web Page; ComponentLink3URL: http://www.national.com/pf/LM/LM3410.html; ComponentLink4Description: SDE06A Package Page; ComponentLink4URL: http://www.national.com/packaging/folders/sde06a.html
footprint SDE06A_full (SON, 6-Leads, Body 3x3 mm, Pitch 0.95mm, Full Paste, NSC Recommended)
footprint SDE06A_quad (SON, 6-Leads, Body 3x3 mm, Pitch 0.95mm, Quad Paste, NSC Recommended)
pins: 1 PGND (power), 2 VIN (power), 3 DIM (in), 4 FB (in), 5 AGND (power), 6 SW (power), 7 DAP (power)

## LM3410YSDX/NOPB
designator U?
525kHz/1.6MHz, Constant Current Boost and SEPIC LED Driver with Internal Compensation, 6-pin LLP, Pb-Free; PartNumber: LM3410YSDX/NOPB; Manufacturer: National Semiconductor; PackageTopMarking: ZXYTT*3410Y; PowerWise: Y; CompType: MiscPower; DatasheetVersion: May-2009; PackageVersion: revA, Jul-2003; PackageReference: SDE06A; PackageDescription: LLP, Plastic, Dual, 3 x 3 x 0.8mm Body, 6 Lead, 0.95mm Pitch, No Pullback; RoHS: Y; PinCount: 6; High-Reliability: Y; ComponentLink1Description: Manufacturer URL; ComponentLink1URL: http://www.national.com/; ComponentLink2Description: LM3410 Datasheet; ComponentLink2URL: http://www.national.com/ds/LM/LM3410.pdf; ComponentLink3Description: LM3410 Web Page; ComponentLink3URL: http://www.national.com/pf/LM/LM3410.html; ComponentLink4Description: SDE06A Package Page; ComponentLink4URL: http://www.national.com/packaging/folders/sde06a.html
footprint SDE06A_full (SON, 6-Leads, Body 3x3 mm, Pitch 0.95mm, Full Paste, NSC Recommended)
footprint SDE06A_quad (SON, 6-Leads, Body 3x3 mm, Pitch 0.95mm, Quad Paste, NSC Recommended)
pins: 1 PGND (power), 2 VIN (power), 3 DIM (in), 4 FB (in), 5 AGND (power), 6 SW (power), 7 DAP (power)

## LM3411AM5-3.3
designator U?
Precision Secondary Regulator/Driver, 5-pin SOT-23; PartNumber: LM3411AM5-3.3; Manufacturer: National Semiconductor; PackageTopMarking: D00A*XTT; PowerWise: N; CompType: MiscPower; High-Reliability: Y; DatasheetVersion: Mar-2005; PackageVersion: revD, Aug-2008; PackageReference: MF05A; PackageDescription: Molded SOT-23, .115 x .063 x .040 in Body, 5 Lead, .0375 in Pitch; RoHS: N; PinCount: 5; ComponentLink1Description: Manufacturer URL; ComponentLink1URL: http://www.national.com/; ComponentLink2Description: LM3411 Datasheet; ComponentLink2URL: http://www.national.com/ds/LM/LM3411.pdf; ComponentLink3Description: LM3411 Web Page; ComponentLink3URL: http://www.national.com/pf/LM/LM3411.html; ComponentLink4Description: MF05A Package Page; ComponentLink4URL: http://www.national.com/packaging/folders/mf05a.html
footprint MF05A_N (SOT23, 5-Leads, Body 2.9x1.6mm, Pitch 0.95mm, Lead Span 2.8mm, IPC Medium Density)
footprint MF05A_L (SOT23, 5-Leads, Body 2.9x1.6mm, Pitch 0.95mm, Lead Span 2.8mm, IPC High Density)
footprint MF05A_M (SOT23, 5-Leads, Body 2.9x1.6mm, Pitch 0.95mm, Lead Span 2.8mm, IPC Low Density)
pins: 1 IN+ (power), 2 GND (power), 3 NC, 4 COMP (in), 5 OUT (power)

## LM3411AM5-3.3/NOPB
designator U?
Precision Secondary Regulator/Driver, 5-pin SOT-23, Pb-Free; PartNumber: LM3411AM5-3.3/NOPB; Manufacturer: National Semiconductor; PackageTopMarking: D00A*XTT; PowerWise: N; CompType: MiscPower; High-Reliability: Y; DatasheetVersion: Mar-2005; PackageVersion: revD, Aug-2008; PackageReference: MF05A; PackageDescription: Molded SOT-23, .115 x .063 x .040 in Body, 5 Lead, .0375 in Pitch; RoHS: Y; PinCount: 5; ComponentLink1Description: Manufacturer URL; ComponentLink1URL: http://www.national.com/; ComponentLink2Description: LM3411 Datasheet; ComponentLink2URL: http://www.national.com/ds/LM/LM3411.pdf; ComponentLink3Description: LM3411 Web Page; ComponentLink3URL: http://www.national.com/pf/LM/LM3411.html; ComponentLink4Description: MF05A Package Page; ComponentLink4URL: http://www.national.com/packaging/folders/mf05a.html
footprint MF05A_N (SOT23, 5-Leads, Body 2.9x1.6mm, Pitch 0.95mm, Lead Span 2.8mm, IPC Medium Density)
footprint MF05A_L (SOT23, 5-Leads, Body 2.9x1.6mm, Pitch 0.95mm, Lead Span 2.8mm, IPC High Density)
footprint MF05A_M (SOT23, 5-Leads, Body 2.9x1.6mm, Pitch 0.95mm, Lead Span 2.8mm, IPC Low Density)
pins: 1 IN+ (power), 2 GND (power), 3 NC, 4 COMP (in), 5 OUT (power)

## LM3411AM5-5.0
designator U?
Precision Secondary Regulator/Driver, 5-pin SOT-23; PartNumber: LM3411AM5-5.0; Manufacturer: National Semiconductor; PackageTopMarking: D01A*XTT; PowerWise: N; CompType: MiscPower; High-Reliability: Y; DatasheetVersion: Mar-2005; PackageVersion: revD, Aug-2008; PackageReference: MF05A; PackageDescription: Molded SOT-23, .115 x .063 x .040 in Body, 5 Lead, .0375 in Pitch; RoHS: N; PinCount: 5; ComponentLink1Description: Manufacturer URL; ComponentLink1URL: http://www.national.com/; ComponentLink2Description: LM3411 Datasheet; ComponentLink2URL: http://www.national.com/ds/LM/LM3411.pdf; ComponentLink3Description: LM3411 Web Page; ComponentLink3URL: http://www.national.com/pf/LM/LM3411.html; ComponentLink4Description: MF05A Package Page; ComponentLink4URL: http://www.national.com/packaging/folders/mf05a.html
footprint MF05A_N (SOT23, 5-Leads, Body 2.9x1.6mm, Pitch 0.95mm, Lead Span 2.8mm, IPC Medium Density)
footprint MF05A_L (SOT23, 5-Leads, Body 2.9x1.6mm, Pitch 0.95mm, Lead Span 2.8mm, IPC High Density)
footprint MF05A_M (SOT23, 5-Leads, Body 2.9x1.6mm, Pitch 0.95mm, Lead Span 2.8mm, IPC Low Density)
pins: 1 IN+ (power), 2 GND (power), 3 NC, 4 COMP (in), 5 OUT (power)

## LM3411AM5-5.0/NOPB
designator U?
Precision Secondary Regulator/Driver, 5-pin SOT-23, Pb-Free; PartNumber: LM3411AM5-5.0/NOPB; Manufacturer: National Semiconductor; PackageTopMarking: D01A*XTT; PowerWise: N; CompType: MiscPower; High-Reliability: Y; DatasheetVersion: Mar-2005; PackageVersion: revD, Aug-2008; PackageReference: MF05A; PackageDescription: Molded SOT-23, .115 x .063 x .040 in Body, 5 Lead, .0375 in Pitch; RoHS: Y; PinCount: 5; ComponentLink1Description: Manufacturer URL; ComponentLink1URL: http://www.national.com/; ComponentLink2Description: LM3411 Datasheet; ComponentLink2URL: http://www.national.com/ds/LM/LM3411.pdf; ComponentLink3Description: LM3411 Web Page; ComponentLink3URL: http://www.national.com/pf/LM/LM3411.html; ComponentLink4Description: MF05A Package Page; ComponentLink4URL: http://www.national.com/packaging/folders/mf05a.html
footprint MF05A_N (SOT23, 5-Leads, Body 2.9x1.6mm, Pitch 0.95mm, Lead Span 2.8mm, IPC Medium Density)
footprint MF05A_L (SOT23, 5-Leads, Body 2.9x1.6mm, Pitch 0.95mm, Lead Span 2.8mm, IPC High Density)
footprint MF05A_M (SOT23, 5-Leads, Body 2.9x1.6mm, Pitch 0.95mm, Lead Span 2.8mm, IPC Low Density)
pins: 1 IN+ (power), 2 GND (power), 3 NC, 4 COMP (in), 5 OUT (power)

## LM3411AM5X-3.3
designator U?
Precision Secondary Regulator/Driver, 5-pin SOT-23; PartNumber: LM3411AM5X-3.3; Manufacturer: National Semiconductor; PackageTopMarking: D00A*XTT; PowerWise: N; CompType: MiscPower; High-Reliability: Y; DatasheetVersion: Mar-2005; PackageVersion: revD, Aug-2008; PackageReference: MF05A; PackageDescription: Molded SOT-23, .115 x .063 x .040 in Body, 5 Lead, .0375 in Pitch; RoHS: N; PinCount: 5; ComponentLink1Description: Manufacturer URL; ComponentLink1URL: http://www.national.com/; ComponentLink2Description: LM3411 Datasheet; ComponentLink2URL: http://www.national.com/ds/LM/LM3411.pdf; ComponentLink3Description: LM3411 Web Page; ComponentLink3URL: http://www.national.com/pf/LM/LM3411.html; ComponentLink4Description: MF05A Package Page; ComponentLink4URL: http://www.national.com/packaging/folders/mf05a.html
footprint MF05A_N (SOT23, 5-Leads, Body 2.9x1.6mm, Pitch 0.95mm, Lead Span 2.8mm, IPC Medium Density)
footprint MF05A_L (SOT23, 5-Leads, Body 2.9x1.6mm, Pitch 0.95mm, Lead Span 2.8mm, IPC High Density)
footprint MF05A_M (SOT23, 5-Leads, Body 2.9x1.6mm, Pitch 0.95mm, Lead Span 2.8mm, IPC Low Density)
pins: 1 IN+ (power), 2 GND (power), 3 NC, 4 COMP (in), 5 OUT (power)

## LM3411AM5X-5.0
designator U?
Precision Secondary Regulator/Driver, 5-pin SOT-23; PartNumber: LM3411AM5X-5.0; Manufacturer: National Semiconductor; PackageTopMarking: D01A*XTT; PowerWise: N; CompType: MiscPower; High-Reliability: Y; DatasheetVersion: Mar-2005; PackageVersion: revD, Aug-2008; PackageReference: MF05A; PackageDescription: Molded SOT-23, .115 x .063 x .040 in Body, 5 Lead, .0375 in Pitch; RoHS: N; PinCount: 5; ComponentLink1Description: Manufacturer URL; ComponentLink1URL: http://www.national.com/; ComponentLink2Description: LM3411 Datasheet; ComponentLink2URL: http://www.national.com/ds/LM/LM3411.pdf; ComponentLink3Description: LM3411 Web Page; ComponentLink3URL: http://www.national.com/pf/LM/LM3411.html; ComponentLink4Description: MF05A Package Page; ComponentLink4URL: http://www.national.com/packaging/folders/mf05a.html
footprint MF05A_N (SOT23, 5-Leads, Body 2.9x1.6mm, Pitch 0.95mm, Lead Span 2.8mm, IPC Medium Density)
footprint MF05A_L (SOT23, 5-Leads, Body 2.9x1.6mm, Pitch 0.95mm, Lead Span 2.8mm, IPC High Density)
footprint MF05A_M (SOT23, 5-Leads, Body 2.9x1.6mm, Pitch 0.95mm, Lead Span 2.8mm, IPC Low Density)
pins: 1 IN+ (power), 2 GND (power), 3 NC, 4 COMP (in), 5 OUT (power)

## LM3411M5-3.3
designator U?
Precision Secondary Regulator/Driver, 5-pin SOT-23; PartNumber: LM3411M5-3.3; Manufacturer: National Semiconductor; PackageTopMarking: D00B*XTT; PowerWise: N; CompType: MiscPower; High-Reliability: Y; DatasheetVersion: Mar-2005; PackageVersion: revD, Aug-2008; PackageReference: MF05A; PackageDescription: Molded SOT-23, .115 x .063 x .040 in Body, 5 Lead, .0375 in Pitch; RoHS: N; PinCount: 5; ComponentLink1Description: Manufacturer URL; ComponentLink1URL: http://www.national.com/; ComponentLink2Description: LM3411 Datasheet; ComponentLink2URL: http://www.national.com/ds/LM/LM3411.pdf; ComponentLink3Description: LM3411 Web Page; ComponentLink3URL: http://www.national.com/pf/LM/LM3411.html; ComponentLink4Description: MF05A Package Page; ComponentLink4URL: http://www.national.com/packaging/folders/mf05a.html
footprint MF05A_N (SOT23, 5-Leads, Body 2.9x1.6mm, Pitch 0.95mm, Lead Span 2.8mm, IPC Medium Density)
footprint MF05A_L (SOT23, 5-Leads, Body 2.9x1.6mm, Pitch 0.95mm, Lead Span 2.8mm, IPC High Density)
footprint MF05A_M (SOT23, 5-Leads, Body 2.9x1.6mm, Pitch 0.95mm, Lead Span 2.8mm, IPC Low Density)
pins: 1 IN+ (power), 2 GND (power), 3 NC, 4 COMP (in), 5 OUT (power)

## LM3411M5-3.3/NOPB
designator U?
Precision Secondary Regulator/Driver, 5-pin SOT-23, Pb-Free; PartNumber: LM3411M5-3.3/NOPB; Manufacturer: National Semiconductor; PackageTopMarking: D00B*XTT; PowerWise: N; CompType: MiscPower; High-Reliability: Y; DatasheetVersion: Mar-2005; PackageVersion: revD, Aug-2008; PackageReference: MF05A; PackageDescription: Molded SOT-23, .115 x .063 x .040 in Body, 5 Lead, .0375 in Pitch; RoHS: Y; PinCount: 5; ComponentLink1Description: Manufacturer URL; ComponentLink1URL: http://www.national.com/; ComponentLink2Description: LM3411 Datasheet; ComponentLink2URL: http://www.national.com/ds/LM/LM3411.pdf; ComponentLink3Description: LM3411 Web Page; ComponentLink3URL: http://www.national.com/pf/LM/LM3411.html; ComponentLink4Description: MF05A Package Page; ComponentLink4URL: http://www.national.com/packaging/folders/mf05a.html
footprint MF05A_N (SOT23, 5-Leads, Body 2.9x1.6mm, Pitch 0.95mm, Lead Span 2.8mm, IPC Medium Density)
footprint MF05A_L (SOT23, 5-Leads, Body 2.9x1.6mm, Pitch 0.95mm, Lead Span 2.8mm, IPC High Density)
footprint MF05A_M (SOT23, 5-Leads, Body 2.9x1.6mm, Pitch 0.95mm, Lead Span 2.8mm, IPC Low Density)
pins: 1 IN+ (power), 2 GND (power), 3 NC, 4 COMP (in), 5 OUT (power)

## LM3411M5-5.0
designator U?
Precision Secondary Regulator/Driver, 5-pin SOT-23; PartNumber: LM3411M5-5.0; Manufacturer: National Semiconductor; PackageTopMarking: D01B*XTT; PowerWise: N; CompType: MiscPower; High-Reliability: Y; DatasheetVersion: Mar-2005; PackageVersion: revD, Aug-2008; PackageReference: MF05A; PackageDescription: Molded SOT-23, .115 x .063 x .040 in Body, 5 Lead, .0375 in Pitch; RoHS: N; PinCount: 5; ComponentLink1Description: Manufacturer URL; ComponentLink1URL: http://www.national.com/; ComponentLink2Description: LM3411 Datasheet; ComponentLink2URL: http://www.national.com/ds/LM/LM3411.pdf; ComponentLink3Description: LM3411 Web Page; ComponentLink3URL: http://www.national.com/pf/LM/LM3411.html; ComponentLink4Description: MF05A Package Page; ComponentLink4URL: http://www.national.com/packaging/folders/mf05a.html
footprint MF05A_N (SOT23, 5-Leads, Body 2.9x1.6mm, Pitch 0.95mm, Lead Span 2.8mm, IPC Medium Density)
footprint MF05A_L (SOT23, 5-Leads, Body 2.9x1.6mm, Pitch 0.95mm, Lead Span 2.8mm, IPC High Density)
footprint MF05A_M (SOT23, 5-Leads, Body 2.9x1.6mm, Pitch 0.95mm, Lead Span 2.8mm, IPC Low Density)
pins: 1 IN+ (power), 2 GND (power), 3 NC, 4 COMP (in), 5 OUT (power)

## LM3411M5-5.0/NOPB
designator U?
Precision Secondary Regulator/Driver, 5-pin SOT-23, Pb-Free; PartNumber: LM3411M5-5.0/NOPB; Manufacturer: National Semiconductor; PackageTopMarking: D01B*XTT; PowerWise: N; CompType: MiscPower; High-Reliability: Y; DatasheetVersion: Mar-2005; PackageVersion: revD, Aug-2008; PackageReference: MF05A; PackageDescription: Molded SOT-23, .115 x .063 x .040 in Body, 5 Lead, .0375 in Pitch; RoHS: Y; PinCount: 5; ComponentLink1Description: Manufacturer URL; ComponentLink1URL: http://www.national.com/; ComponentLink2Description: LM3411 Datasheet; ComponentLink2URL: http://www.national.com/ds/LM/LM3411.pdf; ComponentLink3Description: LM3411 Web Page; ComponentLink3URL: http://www.national.com/pf/LM/LM3411.html; ComponentLink4Description: MF05A Package Page; ComponentLink4URL: http://www.national.com/packaging/folders/mf05a.html
footprint MF05A_N (SOT23, 5-Leads, Body 2.9x1.6mm, Pitch 0.95mm, Lead Span 2.8mm, IPC Medium Density)
footprint MF05A_L (SOT23, 5-Leads, Body 2.9x1.6mm, Pitch 0.95mm, Lead Span 2.8mm, IPC High Density)
footprint MF05A_M (SOT23, 5-Leads, Body 2.9x1.6mm, Pitch 0.95mm, Lead Span 2.8mm, IPC Low Density)
pins: 1 IN+ (power), 2 GND (power), 3 NC, 4 COMP (in), 5 OUT (power)

## LM3411M5X-3.3
designator U?
Precision Secondary Regulator/Driver, 5-pin SOT-23; PartNumber: LM3411M5X-3.3; Manufacturer: National Semiconductor; PackageTopMarking: D00B*XTT; PowerWise: N; CompType: MiscPower; High-Reliability: Y; DatasheetVersion: Mar-2005; PackageVersion: revD, Aug-2008; PackageReference: MF05A; PackageDescription: Molded SOT-23, .115 x .063 x .040 in Body, 5 Lead, .0375 in Pitch; RoHS: N; PinCount: 5; ComponentLink1Description: Manufacturer URL; ComponentLink1URL: http://www.national.com/; ComponentLink2Description: LM3411 Datasheet; ComponentLink2URL: http://www.national.com/ds/LM/LM3411.pdf; ComponentLink3Description: LM3411 Web Page; ComponentLink3URL: http://www.national.com/pf/LM/LM3411.html; ComponentLink4Description: MF05A Package Page; ComponentLink4URL: http://www.national.com/packaging/folders/mf05a.html
footprint MF05A_N (SOT23, 5-Leads, Body 2.9x1.6mm, Pitch 0.95mm, Lead Span 2.8mm, IPC Medium Density)
footprint MF05A_L (SOT23, 5-Leads, Body 2.9x1.6mm, Pitch 0.95mm, Lead Span 2.8mm, IPC High Density)
footprint MF05A_M (SOT23, 5-Leads, Body 2.9x1.6mm, Pitch 0.95mm, Lead Span 2.8mm, IPC Low Density)
pins: 1 IN+ (power), 2 GND (power), 3 NC, 4 COMP (in), 5 OUT (power)

## LM3420AM5-8.4
designator U?
Lithium-Ion Battery Charge Controller, 5-pin SOT-23; PartNumber: LM3420AM5-8.4; Manufacturer: National Semiconductor; PackageTopMarking: D03A*XTT; PowerWise: N; CompType: MiscPower; High-Reliability: Y; DatasheetVersion: Jul-2000; PackageVersion: revD, Aug-2008; PackageReference: MF05A; PackageDescription: Molded SOT-23, .115 x .063 x .040 in Body, 5 Lead, .0375 in Pitch; RoHS: N; PinCount: 5; ComponentLink1Description: Manufacturer URL; ComponentLink1URL: http://www.national.com/; ComponentLink2Description: LM3420 Datasheet; ComponentLink2URL: http://www.national.com/ds/LM/LM3420.pdf; ComponentLink3Description: LM3420 Web Page; ComponentLink3URL: http://www.national.com/pf/LM/LM3420.html; ComponentLink4Description: MF05A Package Page; ComponentLink4URL: http://www.national.com/packaging/folders/mf05a.html
footprint MF05A_N (SOT23, 5-Leads, Body 2.9x1.6mm, Pitch 0.95mm, Lead Span 2.8mm, IPC Medium Density)
footprint MF05A_L (SOT23, 5-Leads, Body 2.9x1.6mm, Pitch 0.95mm, Lead Span 2.8mm, IPC High Density)
footprint MF05A_M (SOT23, 5-Leads, Body 2.9x1.6mm, Pitch 0.95mm, Lead Span 2.8mm, IPC Low Density)
pins: 1 IN (in), 2 GND (power), 3 NC, 4 COMP, 5 OUT (oe)